# Altium integrated library Hamamatsu Distance Image Sensors.IntLib: 2 symbols
Pins are listed as number, name and electrical type; pins without a type are passive.

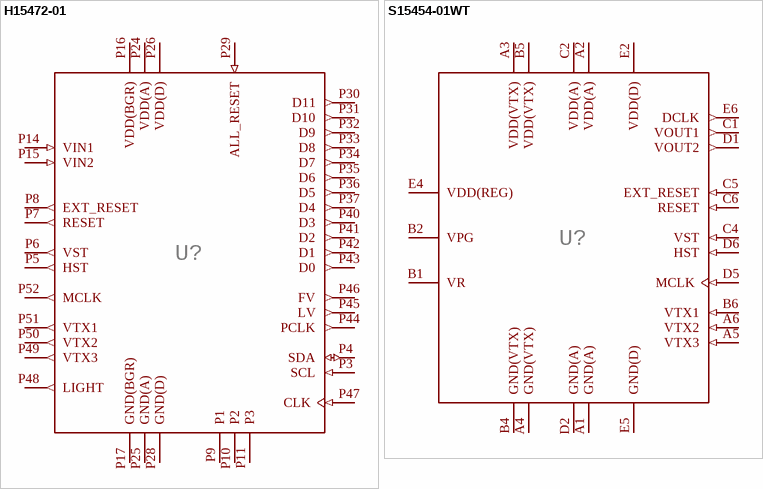
[diagram p0: symbols H15472-01 to S15454-01WT]

## H15472-01
designator U?, comment ASIC for distance image sensors  (value not drawn)
GateName_1: G$1; SymbolName_1: H15472-01; LibraryName: Hamamatsu Distance Image Sensors; DeviceSetName: H15472-01; Package: H15472-01
footprint H15472-01
pins: P3 SCL (in), P4 SDA (io), P5 HST (out), P6 VST (out), P7 RESET (out), P8 EXT_RESET (out), P9 P1, P10 P2, P11 P3, P14 VIN1 (in), P15 VIN2 (in), P16 VDD(BGR) (power), P17 GND(BGR) (power), P24 VDD(A) (power), P25 GND(A) (power), P26 VDD(D) (power), P28 GND(D) (power), P29 ALL_RESET (in), P30 D11 (out), P31 D10 (out), P32 D9 (out), P33 D8 (out), P34 D7 (out), P35 D6 (out), P36 D5 (out), P37 D4 (out), P40 D3 (out), P41 D2 (out), P42 D1 (out), P43 D0 (out), P44 PCLK (out), P45 LV (out), P46 FV (out), P47 CLK (in), P48 LIGHT (out), P49 VTX3 (out), P50 VTX2 (out), P51 VTX1 (out), P52 MCLK (out)

## S15454-01WT
designator U?, comment S15454-01WT Distance Area Image Sensor  (value not drawn)
Hamamatsu area distance image sensor; GateName_1: G$1; SymbolName_1: S15454-01WT; LibraryName: Hamamatsu Distance Image Sensors; DeviceSetName: S15454-01WT; Package: S15454-01WT
footprint S15454-01WT
pins: A1 GND(A) (power), A2 VDD(A) (power), A3 VDD(VTX) (power), A4 GND(VTX) (power), A5 VTX3 (in), A6 VTX2 (in), B1 VR (power), B2 VPG (power), B4 GND(VTX) (power), B5 VDD(VTX) (power), B6 VTX1 (in), C1 VOUT1 (out), C2 VDD(A) (power), C4 VST (in), C5 EXT_RESET (in), C6 RESET (in), D1 VOUT2 (out), D2 GND(A) (power), D5 MCLK (in), D6 HST (in), E2 VDD(D) (power), E4 VDD(REG) (power), E5 GND(D) (power), E6 DCLK (out)